# EAGLE library part X__JST_SH_STEHEND_7 (library 16112011___connector)
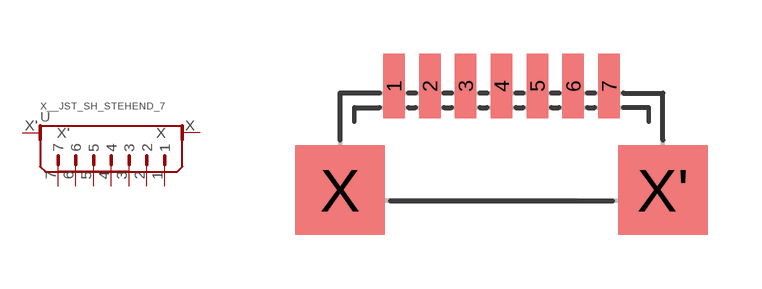
[diagram p38: symbol with the pads of JST_SH_STEHEND_7; footprint JST_SH_STEHEND_7]

Designator prefix -

## X__JST_SH_STEHEND_7  [JST_SH_STEHEND_7]
1  1
2  2
3  3
4  4
5  5
6  6
7  7
X  X
X'  X'

## Footprint JST_SH_STEHEND_7 (pad centres in mm)
smd 0.6 x 1.8: 1 0,0; 2 1,0; 3 2,0; 4 3,0; 5 4,0; 6 5,0; 7 6,0
smd 2.5 x 2.5: X -1.5,-2.9; X' 7.5,-2.9